# Altium schematic symbol library AMC1200_SOP.SchLib: 1 symbol
Pins are listed as number, name and electrical type; pins without a type are passive.

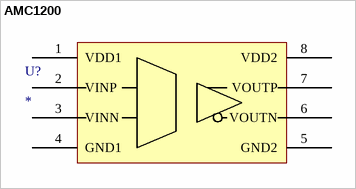
[diagram p0: symbol AMC1200]

## AMC1200
designator U?
OPERATIONAL AMPLIFIERS ISOLATION 1 2.7V ~ 5.5V 100KHZ(-3DB) SOP-8_6.6MM ROHS; ComponentLink1Description: Datasheet; ComponentLink1URL: https://datasheet.lcsc.com/szlcsc/1904021507_Texas-Instruments-TI-AMC1200BDUBR_C94069.pdf
footprint PCBComponent_1
pins: 1 VDD1, 2 VINP, 3 VINN, 4 GND1, 5 GND2, 6 VOUTN, 7 VOUTP, 8 VDD2